# Altium footprint library 0008-NSA_IR_Sync_Board.PcbLib: 5 footprints
Each footprint in its own frame and in the unit in brackets; x right, y up, seen from the top. Pads: shape width x height; smd on the part's side, far side on the other; paste and mask are expansions set on the pad; w line width, h text height; cw(c..) or ccw(c..) is an arc to the next point about the centre after c.
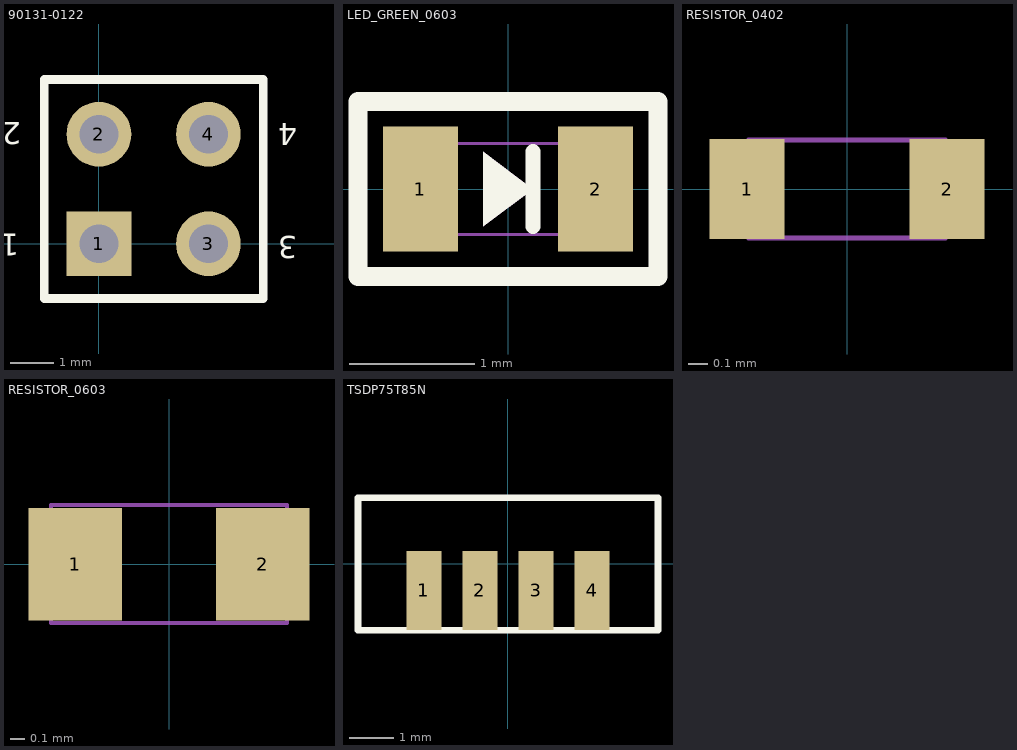
[diagram p0: the footprints below, top view; thin cyan lines are the x and y axes]

## 90131-0122 [mm] "Connector; Header; 2x2 Position"
pads (4):
  rect 1.5x1.5 hole 0.9: 1(0,0)
  round 1.5 hole 0.9: 2(0,2.54) 3(2.54,0) 4(2.54,2.54)
Top Overlay:
  lines w0.2: -1.27,-1.27 3.81,-1.27 3.81,3.81 -1.27,3.81 -1.27,-1.27
  text "3" at 4.597,0.178 h0.51
  text "4" at 4.597,2.794 h0.51
  text "2" at -1.803,2.819 h0.51
  text "1" at -1.854,0.229 h0.51
3D body: height 9.25, standoff -2.9, extent -1.27,-1.27 3.81,3.81

## LED_GREEN_0603 [mm]
pads (2):
  rect 0.6x1 smd mask+0.064: 1(-0.7,0) 2(0.7,0)
Top Overlay:
  region: 0.2,0 -0.2,0.3 -0.2,-0.3
  lines w0.12: 0.2,-0.3 0.2,0.3
  lines w0.15: -1.2,-0.7 -1.2,0.7 1.2,0.7 1.2,-0.7 -1.2,-0.7
Mechanical 1:
  region: 0.2,0 -0.2,0.3 -0.2,-0.3
  lines w0.025: 0.2,-0.3 0.2,0.3 ; -0.825,-0.363 0.826,-0.363 0.826,0.363 -0.825,0.363 -0.825,-0.363
3D body: height 0.68, standoff 0, extent -0.825,-0.362 0.825,0.363

## RESISTOR_0402 [mil]
pads (2):
  rect 15x20 smd mask+2.5: 1(-20,0) 2(20,0)
Mechanical 1:
  lines w1: -19.68,-9.84 -19.68,9.84 19.68,9.84 19.68,-9.84 -19.68,-9.84
3D body: height 14.96, standoff 0, extent -19.68,-9.84 19.68,9.84

## RESISTOR_0603 [mil]
pads (2):
  rect 25x30 smd mask+2.5: 1(-25,0) 2(25,0)
Mechanical 1:
  lines w1: -31.5,-15.75 31.5,-15.75 31.5,15.75 -31.5,15.75 -31.5,-15.75
3D body: height 21.65, standoff 0, extent -31.5,-15.75 31.5,15.75

## TSDP75T85N [mm]
pads (4):
  rect 0.8x1.8 smd: 1(-1.905,-0.6) 2(-0.635,-0.6) 3(0.635,-0.6) 4(1.905,-0.6)
Top Overlay:
  lines w0.15: -3.4,-1.5 -3.4,1.5 3.4,1.5 3.4,-1.5 -3.4,-1.5
3D body: height -0.5, standoff -3.7, extent -3.4,-1.476 3.4,1.524